# EAGLE library part AD8602 (library analog-devices)
IC OPAMP GP 8.4MHZ
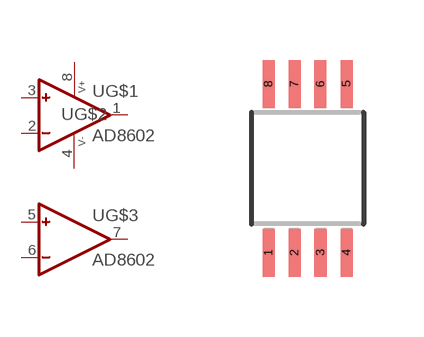
[diagram p69: symbol with the pads of MSOP08; footprint MSOP08]

Designator prefix U; gates G$1=OP G$2=PWR+- G$3=OP

## AD8602 (DIGIKEY: AD8602DRMZ-REELCT-ND)  [MSOP08]
1  G$1:OUT  out
2  G$1:IN-  in
3  G$1:IN+  in
4  G$2:V-  pwr
5  G$3:IN+  in
6  G$3:IN-  in
7  G$3:OUT  out
8  G$2:V+  pwr

## Footprint MSOP08 (pad centres in mm)
Mini Small Outline Package
smd 0.3 x 1.2: 1 -0.975,-2.113; 2 -0.325,-2.113; 3 0.325,-2.113; 4 0.975,-2.113; 5 0.975,2.112; 6 0.324,2.112; 7 -0.325,2.112; 8 -0.975,2.112